# Altium schematic symbol library RES_DNP_0603.SchLib: 1 symbol
Pins are listed as number, name and electrical type; pins without a type are passive.

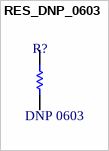
[diagram p0: symbol RES_DNP_0603]

## RES_DNP_0603
designator R?  Resistance: DNP 0603  (hidden comment: RES_DNP_0603)
0603 Do not place resistor
footprint RES_DNP_0603
pins: 1, 2